# EAGLE library part DIL24 (library ic-package)
Dual In Line
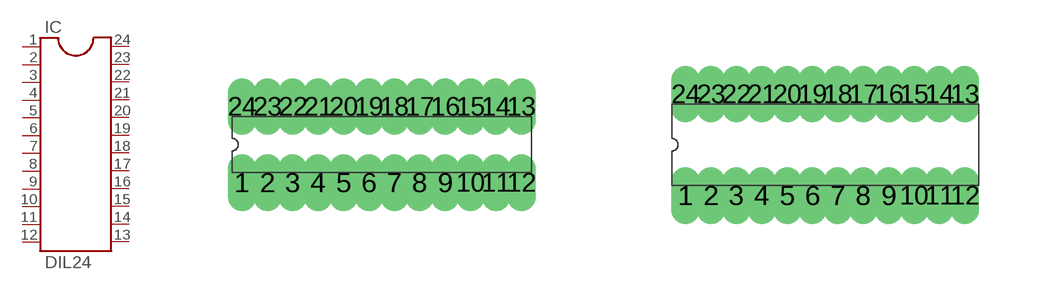
[diagram p11: symbol with the pads of DIL24-3; footprints DIL24-3, DIL24-4]

Designator prefix IC

## DIL24-3  [DIL24-3]
1  1  pas
2  2  pas
3  3  pas
4  4  pas
5  5  pas
6  6  pas
7  7  pas
8  8  pas
9  9  pas
10  10  pas
11  11  pas
12  12  pas
13  13  pas
14  14  pas
15  15  pas
16  16  pas
17  17  pas
18  18  pas
19  19  pas
20  20  pas
21  21  pas
22  22  pas
23  23  pas
24  24  pas

## DIL24-4  [DIL24-4]
Pads as for DIL24-3

## DIL24-6  [DIL24-6]
Pads as for DIL24-3

## DIL24-9  [DIL24-9]
Pads as for DIL24-3

## Footprint DIL24-3 (pad centres in mm)
Dual In Line Package 0.3 inch
drill 0.203 long: 1 -3.493,-0.953; 2 -2.857,-0.953; 3 -2.223,-0.953; 4 -1.587,-0.953; 5 -0.953,-0.953; 6 -0.318,-0.953; 7 0.318,-0.953; 8 0.953,-0.953; 9 1.587,-0.953; 10 2.223,-0.953; 11 2.857,-0.953; 12 3.493,-0.953; 13 3.493,0.953; 14 2.857,0.953; 15 2.223,0.953; 16 1.587,0.953; 17 0.953,0.953; 18 0.318,0.953; 19 -0.318,0.953; 20 -0.953,0.953; 21 -1.587,0.953; 22 -2.223,0.953; 23 -2.857,0.953; 24 -3.493,0.953

## Footprint DIL24-4 (pad centres in mm)
Dual In Line Package 0.4 inch
drill 0.203 long: 1 -3.493,-1.27; 2 -2.857,-1.27; 3 -2.223,-1.27; 4 -1.587,-1.27; 5 -0.953,-1.27; 6 -0.318,-1.27; 7 0.318,-1.27; 8 0.953,-1.27; 9 1.587,-1.27; 10 2.223,-1.27; 11 2.857,-1.27; 12 3.493,-1.27; 13 3.493,1.27; 14 2.857,1.27; 15 2.223,1.27; 16 1.587,1.27; 17 0.953,1.27; 18 0.318,1.27; 19 -0.318,1.27; 20 -0.953,1.27; 21 -1.587,1.27; 22 -2.223,1.27; 23 -2.857,1.27; 24 -3.493,1.27

## Footprint DIL24-6 (pad centres in mm)
Dual In Line Package 0.6 inch
drill 0.203 long: 1 -3.493,-1.905; 2 -2.857,-1.905; 3 -2.223,-1.905; 4 -1.587,-1.905; 5 -0.953,-1.905; 6 -0.318,-1.905; 7 0.318,-1.905; 8 0.953,-1.905; 9 1.587,-1.905; 10 2.223,-1.905; 11 2.857,-1.905; 12 3.493,-1.905; 13 3.493,1.905; 14 2.857,1.905; 15 2.223,1.905; 16 1.587,1.905; 17 0.953,1.905; 18 0.318,1.905; 19 -0.318,1.905; 20 -0.953,1.905; 21 -1.587,1.905; 22 -2.223,1.905; 23 -2.857,1.905; 24 -3.493,1.905

## Footprint DIL24-9 (pad centres in mm)
Dual In Line Package 0.9 inch
drill 0.203 long: 1 -3.493,-2.857; 2 -2.857,-2.857; 3 -2.223,-2.857; 4 -1.587,-2.857; 5 -0.953,-2.857; 6 -0.318,-2.857; 7 0.318,-2.857; 8 0.953,-2.857; 9 1.587,-2.857; 10 2.223,-2.857; 11 2.857,-2.857; 12 3.493,-2.857; 13 3.493,2.857; 14 2.857,2.857; 15 2.223,2.857; 16 1.587,2.857; 17 0.953,2.857; 18 0.318,2.857; 19 -0.318,2.857; 20 -0.953,2.857; 21 -1.587,2.857; 22 -2.223,2.857; 23 -2.857,2.857; 24 -3.493,2.857